# Altium schematic symbol library DRDNB21D-7.SchLib: 1 symbol
Pins are listed as number, name and electrical type; pins without a type are passive.

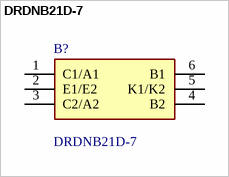
[diagram p0: symbol DRDNB21D-7]

## DRDNB21D-7
designator B?
Diodes Inc, DRDNB21D-7, Dual NPN Digital Transistor, 100 mA 50 V, 6-Pin SOT-363; Manufacturer_Name: Diodes Incorporated; Geometry.Height: 1.1mm; Mouser Part Number: 621-DRDNB21D-7; Mouser Price/Stock: https://www.mouser.co.uk/ProductDetail/Diodes-Incorporated/DRDNB21D-7?qs=mQbszxtPdlPuLejzjzn%2Fng%3D%3D; Manufacturer_Part_Number: DRDNB21D-7; Datasheet Link: https://www.diodes.com//assets/Datasheets/ds30756.pdf
footprint SOT65P210X110-6N
pins: 1 C1/A1, 2 E1/E2, 3 C2/A2, 4 B2, 5 K1/K2, 6 B1